# Altium footprint library Resistor_Trimmer.PcbLib: 1 footprints
Each footprint in its own frame and in the unit in brackets; x right, y up, seen from the top. Pads: shape width x height; smd on the part's side, far side on the other; paste and mask are expansions set on the pad; w line width, h text height; cw(c..) or ccw(c..) is an arc to the next point about the centre after c.
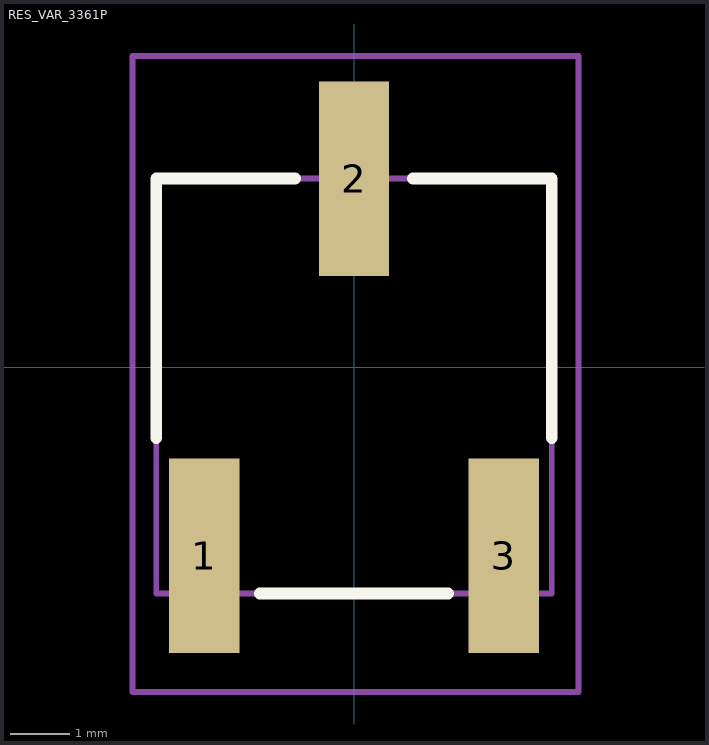
[diagram p0: the footprint, top view; thin cyan lines are the x and y axes]

## RES_VAR_3361P [mm]
pads (3):
  rect 1.19x3.3 smd: 1(-2.54,-3.2) 2(0,3.2) 3(2.54,-3.2)
Top Overlay:
  lines w0.2: -3.355,-1.2 -3.355,3.2 -1,3.2 ; -1.6,-3.84 1.6,-3.84 ; 1,3.2 3.355,3.2 3.355,-1.2
Mechanical 13:
  lines w0.1: -3.355,-3.84 -3.355,3.2 3.355,3.2 3.355,-3.84 -3.355,-3.84
Mechanical 15:
  lines w0.1: -3.759,-5.512 -3.759,5.283 3.81,5.283 3.81,-5.512 -3.759,-5.512
3D body "3361P-1-201GLF.stp": height 5.3, standoff 0.07, extent -3.244,-4.076 3.461,4.458